# Altium schematic symbol library Schlib4.SchLib: 3 symbols
Pins are listed as number, name and electrical type; pins without a type are passive.

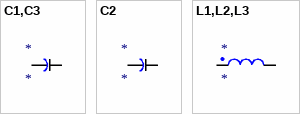
[diagram p0: symbols C1,C3 to L1,L2,L3]

## C1,C3
designator *
pins: 1, 2

## C2
designator *
pins: 1, 2

## L1,L2,L3
designator *
footprint L1,L2,L3
pins: 1, 2